# EAGLE library part AOZ1284 (library BeagleBone_Blue_R3_TESTPAD)
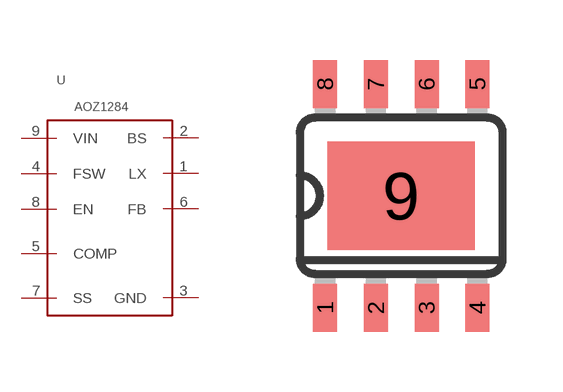
[diagram p5: symbol with the pads of SO08-EXPOSED; footprint SO08-EXPOSED]

Designator prefix -

## AOZ1284  [SO08-EXPOSED]
1  LX
2  BS
3  GND
4  FSW
5  COMP
6  FB
7  SS
8  EN
9  VIN

## Footprint SO08-EXPOSED (pad centres in mm)
smd 0.6 x 1.2: 1 -1.905,-2.8; 2 -0.635,-2.8; 3 0.635,-2.8; 4 1.905,-2.8; 5 1.905,2.8; 6 0.635,2.8; 7 -0.635,2.8; 8 -1.905,2.8
smd 3.683 x 2.718: 9 0,0